# Altium footprint library ADI.PcbLib: 4 footprints
Each footprint in its own frame and in the unit in brackets; x right, y up, seen from the top. Pads: shape width x height; smd on the part's side, far side on the other; paste and mask are expansions set on the pad; w line width, h text height; cw(c..) or ccw(c..) is an arc to the next point about the centre after c.
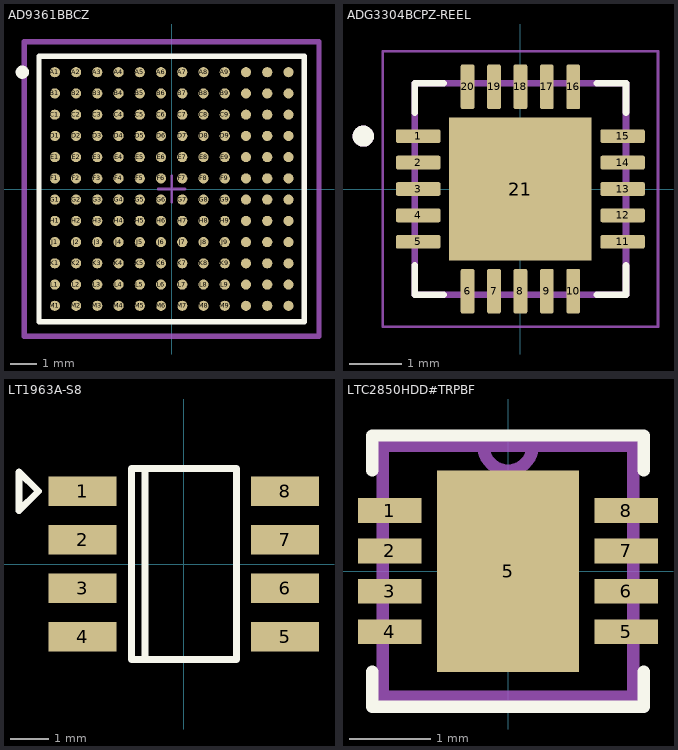
[diagram p0: the footprints below, top view; thin cyan lines are the x and y axes]

## AD9361BBCZ [mm]
pads (144):
  round 0.383 smd paste+0 mask+0: A1(-4.4,4.4) A2(-3.6,4.4) A3(-2.8,4.4) A4(-2,4.4) A5(-1.2,4.4) A6(-0.4,4.4) A7(0.4,4.4) A8(1.2,4.4) A9(2,4.4) A10(2.8,4.4) A11(3.6,4.4) A12(4.4,4.4) B1(-4.4,3.6) B2(-3.6,3.6) B3(-2.8,3.6) B4(-2,3.6) B5(-1.2,3.6) B6(-0.4,3.6) B7(0.4,3.6) B8(1.2,3.6) B9(2,3.6) B10(2.8,3.6) B11(3.6,3.6) B12(4.4,3.6) C1(-4.4,2.8) C2(-3.6,2.8) C3(-2.8,2.8) C4(-2,2.8) C5(-1.2,2.8) C6(-0.4,2.8) C7(0.4,2.8) C8(1.2,2.8) C9(2,2.8) C10(2.8,2.8) C11(3.6,2.8) C12(4.4,2.8) D1(-4.4,2) D2(-3.6,2) D3(-2.8,2) D4(-2,2) D5(-1.2,2) D6(-0.4,2) D7(0.4,2) D8(1.2,2) D9(2,2) D10(2.8,2) D11(3.6,2) D12(4.4,2) E1(-4.4,1.2) E2(-3.6,1.2) E3(-2.8,1.2) E4(-2,1.2) E5(-1.2,1.2) E6(-0.4,1.2) E7(0.4,1.2) E8(1.2,1.2) E9(2,1.2) E10(2.8,1.2) E11(3.6,1.2) E12(4.4,1.2) F1(-4.4,0.4) F2(-3.6,0.4) F3(-2.8,0.4) F4(-2,0.4) F5(-1.2,0.4) F6(-0.4,0.4) F7(0.4,0.4) F8(1.2,0.4) F9(2,0.4) F10(2.8,0.4) F11(3.6,0.4) F12(4.4,0.4) G1(-4.4,-0.4) G2(-3.6,-0.4) G3(-2.8,-0.4) G4(-2,-0.4) G5(-1.2,-0.4) G6(-0.4,-0.4) G7(0.4,-0.4) G8(1.2,-0.4) G9(2,-0.4) G10(2.8,-0.4) G11(3.6,-0.4) G12(4.4,-0.4) H1(-4.4,-1.2) H2(-3.6,-1.2) H3(-2.8,-1.2) H4(-2,-1.2) H5(-1.2,-1.2) H6(-0.4,-1.2) H7(0.4,-1.2) H8(1.2,-1.2) H9(2,-1.2) H10(2.8,-1.2) H11(3.6,-1.2) H12(4.4,-1.2) J1(-4.4,-2) J2(-3.6,-2) J3(-2.8,-2) J4(-2,-2) J5(-1.2,-2) J6(-0.4,-2) J7(0.4,-2) J8(1.2,-2) J9(2,-2) J10(2.8,-2) J11(3.6,-2) J12(4.4,-2) K1(-4.4,-2.8) K2(-3.6,-2.8) K3(-2.8,-2.8) K4(-2,-2.8) K5(-1.2,-2.8) K6(-0.4,-2.8) K7(0.4,-2.8) K8(1.2,-2.8) K9(2,-2.8) K10(2.8,-2.8) K11(3.6,-2.8) K12(4.4,-2.8) L1(-4.4,-3.6) L2(-3.6,-3.6) L3(-2.8,-3.6) L4(-2,-3.6) L5(-1.2,-3.6) L6(-0.4,-3.6) L7(0.4,-3.6) L8(1.2,-3.6) L9(2,-3.6) L10(2.8,-3.6) L11(3.6,-3.6) L12(4.4,-3.6) M1(-4.4,-4.4) M2(-3.6,-4.4) M3(-2.8,-4.4) M4(-2,-4.4) M5(-1.2,-4.4) M6(-0.4,-4.4) M7(0.4,-4.4) M8(1.2,-4.4) M9(2,-4.4) M10(2.8,-4.4) M11(3.6,-4.4) M12(4.4,-4.4)
Top Overlay:
  circle w0.25: c-5.625,4.4 r0.125
  lines w0.2: -5,-5 5,-5 5,5 -5,5 -5,-5
Mechanical 10:
  lines w0.2: -5.55,-5.55 5.55,-5.55 5.55,5.55 -5.55,5.55 -5.55,-5.55
  text ".Designator" at 0,0 h1
Mechanical 12:
  lines w0.15: -5,-5 5,-5 5,5 -5,5 -5,-5
Mechanical 15:
  lines w0.1: -0.5,0 0.5,0 ; 0,-0.5 0,0.5
  lines w0.2: -5.55,-5.55 5.55,-5.55 5.55,5.55 -5.55,5.55 -5.55,-5.55
3D body "IC_Analog_Devices_Inc_AD9361BBCZ_eec.STEP": height 0.25, standoff 0, extent -5.55,-5.55 5.55,5.55

## ADG3304BCPZ-REEL [mm]
pads (21):
  rrect25% 0.84x0.26 smd: 1(-1.935,1) 2(-1.935,0.5) 3(-1.935,0) 4(-1.935,-0.5) 5(-1.935,-1) 11(1.935,-1) 12(1.935,-0.5) 13(1.935,0) 14(1.935,0.5) 15(1.935,1)
  rrect25% 0.26x0.84 smd: 6(-1,-1.935) 7(-0.5,-1.935) 8(0,-1.935) 9(0.5,-1.935) 10(1,-1.935) 16(1,1.935) 17(0.5,1.935) 18(0,1.935) 19(-0.5,1.935) 20(-1,1.935)
  rect 2.7x2.7 smd paste-0.5: 21(0,0)
Top Overlay:
  circle w0.2: c-2.975,1 r0.1
  lines w0.127: -2,-1.45 -2,-2 -1.45,-2 ; -2,1.45 -2,2 -1.45,2 ; 1.45,-2 2,-2 2,-1.45 ; 1.45,2 2,2 2,1.45
Mechanical 13:
  circle w0.2: c-2.975,1 r0.1
  lines w0.127: -2,-2 -2,2 2,2 2,-2 -2,-2
Mechanical 15:
  lines w0.05: -2.605,-2.605 -2.605,2.605 2.605,2.605 2.605,-2.605 -2.605,-2.605

## LT1963A-S8 [mil]
height 295.28
pads (8):
  rect 70x30 smd: 1(-104.33,75) 2(-104.33,25) 3(-104.33,-25) 4(-104.33,-75) 5(104.33,-75) 6(104.33,-25) 7(104.33,25) 8(104.33,75)
Top Overlay:
  lines w7: -40,-98.43 -40,98.43 ; -170,55 -170,95 -150,75 -170,55 ; -54.02,-98.43 54.2,-98.43 54.2,98.43 -54.02,98.43 -54.02,-98.43

## LTC2850HDD#TRPBF [mil]
pads (9):
  rect 31x12 smd: 1(-57.5,29.53) 2(-57.5,9.84) 3(-57.5,-9.84) 4(-57.5,-29.53) 5(57.5,-29.53) 6(57.5,-9.84) 7(57.5,9.84) 8(57.5,29.53)
  rect 69x98 smd paste-78.74: 5(0,0)
Top Overlay:
  lines w6: -66,-49 -66,-66 66,-66 66,-49 ; -66,49 -66,66 66,66 66,49
Top Paste:
  region: 34.5,-49 -34.5,-49 -34.5,49 34.5,49
Mechanical 13:
  lines w6: -12,61 ccw(c0,61) 12,61 ; -12,61 12,61 ; -12,61 -61,61 -61,-61 61,-61 61,61 12,61